# Altium footprint library Anemoia-ESP32.PcbLib: 32 footprints (part 2 of 2)
Each footprint in its own frame and in the unit in brackets; x right, y up, seen from the top. Pads: shape width x height; smd on the part's side, far side on the other; paste and mask are expansions set on the pad; w line width, h text height; cw(c..) or ccw(c..) is an arc to the next point about the centre after c.
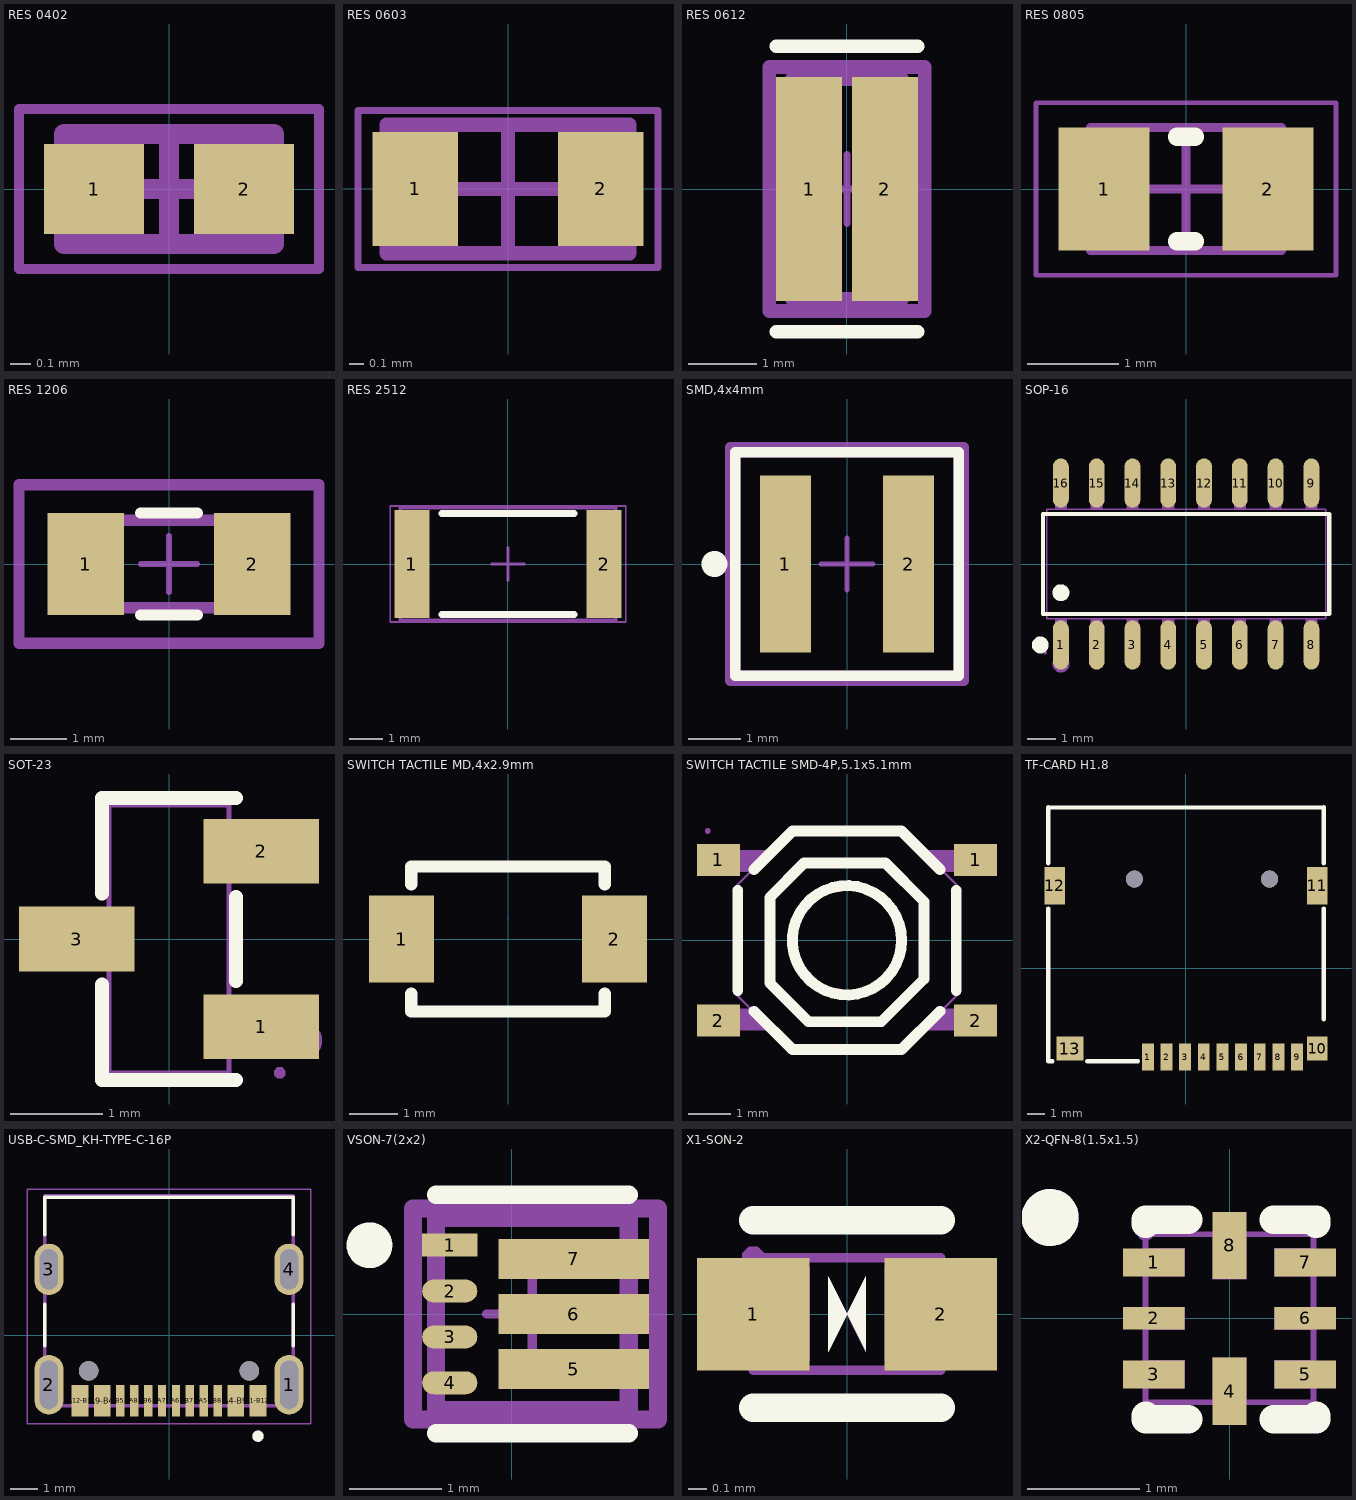
[diagram p1: the footprints below, top view; thin cyan lines are the x and y axes]

## RES 0402 [mm]
height 0.4
pads (2):
  rect 0.5x0.45 smd: 1(-0.375,0) 2(0.375,0)
Top 3D Body:
  lines w0.1: -0.525,-0.275 -0.525,0.275 0.525,0.275 0.525,-0.275 -0.525,-0.275
Mechanical 15:
  lines w0.05: -0.75,-0.4 -0.75,0.4 0.75,0.4 0.75,-0.4 -0.75,-0.4
  lines w0.1: -0.275,0 0.275,0 ; 0,-0.275 0,0.275
3D body: height 0.4, standoff 0, extent -0.275,-0.275 0.275,0.275
3D body: height 0.4, standoff 0, extent -0.525,-0.275 -0.275,0.275
3D body: height 0.4, standoff 0, extent 0.275,-0.275 0.525,0.275

## RES 0603 [mm] "Chip Resistor, 2-Leads, Body 1.60x0.80mm, IPC High Density"
height 0.55
pads (2):
  rect 0.6x0.8 smd: 1(-0.65,0) 2(0.65,0)
Top 3D Body:
  lines w0.1: -0.85,-0.45 -0.85,0.45 0.85,0.45 0.85,-0.45 -0.85,-0.45
Mechanical 15:
  lines w0.05: -1.05,-0.55 -1.05,0.55 1.05,0.55 1.05,-0.55 -1.05,-0.55
  lines w0.1: -0.45,0 0.45,0 ; 0,-0.45 0,0.45
3D body: height 0.55, standoff 0, extent -0.6,-0.45 0.6,0.45
3D body: height 0.55, standoff 0, extent -0.85,-0.45 -0.6,0.45
3D body: height 0.55, standoff 0, extent 0.6,-0.45 0.85,0.45

## RES 0612 [mm]
pads (2):
  rect 0.954x3.258 smd paste+0 mask+0: 1(-0.552,0) 2(0.552,0)
Top Overlay:
  lines w0.2: -1.029,-2.075 1.029,-2.075 ; -1.029,2.075 1.029,2.075
Top Courtyard:
  lines w0.2: -1.129,-1.775 -1.129,1.775 1.129,1.775 1.129,-1.775 -1.129,-1.775
Top Assembly:
  lines w0.2: -1.129,-1.775 -1.129,1.775 1.129,1.775 1.129,-1.775 -1.129,-1.775
Top 3D Body:
  lines w0.2: -0.8,-1.6 -0.8,1.6 0.8,1.6 0.8,-1.6 -0.8,-1.6
Top Component Center:
  lines w0.1: -0.5,0 0.5,0 ; 0,-0.5 0,0.5
3D body "Res_Rohm_LTR18EZPF12R0_eec.STEP": height 0.25, standoff 0, extent -1.129,-1.775 1.129,1.775

## RES 0805 [mm] "Chip Resistor, 2-Leads, Body 2.1x1.35mm, IPC Medium Density"
height 0.6
pads (2):
  rect 1x1.35 smd: 1(-0.9,0) 2(0.9,0)
Top Overlay:
  lines w0.2: -0.1,-0.575 0.1,-0.575 ; -0.1,0.575 0.1,0.575
Top 3D Body:
  lines w0.1: -1.05,-0.675 1.05,-0.675 1.05,0.675 -1.05,0.675 -1.05,-0.675
Mechanical 15:
  lines w0.05: -1.65,-0.95 1.65,-0.95 1.65,0.95 -1.65,0.95 -1.65,-0.95
  lines w0.1: -0.5,0 0.5,0 ; 0,-0.5 0,0.5
3D body "RESC2012X06N.step": height 0.6, standoff 0, extent -1.05,-0.675 1.05,0.675

## RES 1206 [mm]
pads (2):
  rect 1.356x1.808 smd paste+0 mask+0: 1(-1.476,0) 2(1.476,0)
Top Overlay:
  lines w0.2: -0.498,-0.904 0.498,-0.904 ; -0.498,0.904 0.498,0.904
Top Courtyard:
  lines w0.2: -2.654,-1.404 2.654,-1.404 2.654,1.404 -2.654,1.404 -2.654,-1.404
Top Assembly:
  lines w0.2: -2.654,-1.404 2.654,-1.404 2.654,1.404 -2.654,1.404 -2.654,-1.404
Top 3D Body:
  lines w0.2: -1.525,-0.775 1.525,-0.775 1.525,0.775 -1.525,0.775 -1.525,-0.775
Top Component Center:
  lines w0.1: -0.5,0 0.5,0 ; 0,-0.5 0,0.5
3D body "Res_Stackpole_Electronics_CSR1206FKR500_eec.STEP": height 0.25, standoff 0, extent -2.654,-1.404 2.654,1.404

## RES 2512 [mm]
pads (2):
  rect 1.05x3.25 smd: 1(-2.9,0) 2(2.9,0)
Top Overlay:
  lines w0.2: -2,-1.525 2,-1.525 ; -2,1.525 2,1.525
Top 3D Body:
  lines w0.1: -3.25,-1.7 -3.25,1.7 3.25,1.7 3.25,-1.7 -3.25,-1.7
Mechanical 15:
  lines w0.05: -3.55,-1.75 -3.55,1.75 3.55,1.75 3.55,-1.75 -3.55,-1.75
  lines w0.1: -0.5,0 0.5,0 ; 0,-0.5 0,0.5
3D body: height 0.75, standoff 0, extent 2.63,-1.7 3.25,1.7
3D body: height 0.75, standoff 0, extent -2.63,-1.7 2.63,1.7
3D body: height 0.75, standoff 0, extent -3.25,-1.7 -2.63,1.7

## SMD,4x4mm [mm]
pads (2):
  rect 0.98x3.4 smd paste+0 mask+0: 1(-1.185,0) 2(1.185,0)
Top Overlay:
  circle w0.25: c-2.55,0 r0.125
  lines w0.2: -2.15,-2.15 -2.15,2.15 2.15,2.15 2.15,-2.15 -2.15,-2.15
Top Courtyard:
  lines w0.2: -2.25,-2.25 -2.25,2.25 2.25,2.25 2.25,-2.25 -2.25,-2.25
Top Assembly:
  lines w0.2: -2.25,-2.25 -2.25,2.25 2.25,2.25 2.25,-2.25 -2.25,-2.25
Top 3D Body:
  lines w0.2: -2.15,-2.15 -2.15,2.15 2.15,2.15 2.15,-2.15 -2.15,-2.15
Top Component Center:
  lines w0.1: -0.5,0 0.5,0 ; 0,-0.5 0,0.5
3D body "Ind_Coilcraft_XFL4015-471MEB_eec.STEP": height 0.25, standoff 0, extent -2.25,-2.25 2.25,2.25

## SOP-16 [mm]
pads (16):
  oval 0.56x1.745 smd: 1(-4.445,-2.872) 2(-3.175,-2.872) 3(-1.905,-2.872) 4(-0.635,-2.872) 5(0.635,-2.872) 6(1.905,-2.872) 7(3.175,-2.872) 8(4.445,-2.872) 9(4.445,2.872) 10(3.175,2.872) 11(1.905,2.872) 12(0.635,2.872) 13(-0.635,2.872) 14(-1.905,2.872) 15(-3.175,2.872) 16(-4.445,2.872)
Top Overlay:
  circle w0.3: c-4.445,-1.019 r0.15
  circle w0.3: c-5.177,-2.872 r0.15
  lines w0.152: -5.076,-1.771 -5.076,1.771 5.076,1.771 5.076,-1.771 -5.076,-1.771
Mechanical 6:
  circle w0.3: c-4.445,-3.55 r0.15
Mechanical 15:
  drawing of 37 lines, arcs and shapes, not listed
3D body "TCMT4600T0.STEP": height 2.1, standoff -0.02, extent -5.51,-3.555 5.51,3.555

## SOT-23 [mm]
pads (3):
  rect 1.25x0.7 smd: 1(1,-0.95) 2(1,0.95) 3(-1,0)
Top Overlay:
  lines w0.152: -0.726,-0.495 -0.726,-1.526 0.726,-1.526 ; -0.726,0.495 -0.726,1.526 0.726,1.526 ; 0.726,-0.455 0.726,0.455
Mechanical 6:
  circle w0.2: c1.46,-1.1 r0.1
Mechanical 15:
  region: -1.2,-0.215 -1.2,0.215 -0.9,0.215 -0.9,-0.215
  region: -0.91,-0.215 -0.91,0.215 -0.64,0.215 -0.64,-0.215
  region: 0.9,-1.165 0.9,-0.735 1.2,-0.735 1.2,-1.165
  region: 0.64,-1.165 0.64,-0.735 0.91,-0.735 0.91,-1.165
  region: 0.9,0.735 0.9,1.165 1.2,1.165 1.2,0.735
  region: 0.64,0.735 0.64,1.165 0.91,1.165 0.91,0.735
  region: 1.26,-1.45 1.26,-1.475 1.225,-1.51 1.175,-1.51 1.14,-1.475 1.14,-1.45 1.14,-1.425 1.175,-1.39 1.225,-1.39 1.26,-1.425
  lines w0.051: -0.65,-1.45 0.65,-1.45 0.65,1.45 -0.65,1.45 -0.65,-1.45
3D body "DNBT8105-7--3DModel-STEP-56544.STEP": height 1.2, standoff 0, extent -1.2,-1.45 1.2,1.45

## SWITCH TACTILE MD,4x2.9mm [mm]
pads (2):
  rect 1.35x1.8 smd paste+0 mask+0.051: 1(-2.2,0) 2(2.2,0)
Top Overlay:
  lines w0.254: -2,-1.131 -2,-1.5 2,-1.5 2,-1.131 ; -2,1.131 -2,1.5 2,1.5 2,1.131
Mechanical 15:
  lines w0.003: 0,0.424 0,0.425
3D body "B3U1000PM.STEP": height 1.75, standoff 0, extent -2,-1.25 2,1.25

## SWITCH TACTILE SMD-4P,5.1x5.1mm [mm]
pads (4):
  rect 1x0.75 smd: 1(-3,1.875) 1(3,1.875) 2(-3,-1.875) 2(3,-1.875)
Top Overlay:
  circle w0.254: c0,0 r1.275
  lines w0.254: -2.55,-1.168 -2.55,1.168 ; -2.17,-1.655 -1.275,-2.55 1.275,-2.55 2.17,-1.655 ; -2.17,1.655 -1.275,2.55 1.275,2.55 2.17,1.655 ; 2.55,-1.168 2.55,1.168 ; -1.801,-0.998 -1.801,1.001 -1.001,1.801 0.899,1.801 1.801,0.899 1.801,-0.899 0.8,-1.9 -0.899,-1.9 -1.801,-0.998
Mechanical 15:
  region: -3.19,2.55 -3.19,2.525 -3.225,2.49 -3.275,2.49 -3.31,2.525 -3.31,2.55 -3.31,2.575 -3.275,2.61 -3.225,2.61 -3.19,2.575
  region: -3.25,1.599 -3.25,2.099 -2.85,2.099 -2.85,1.599
  region: -3.25,-2.1 -3.25,-1.6 -2.85,-1.6 -2.85,-2.1
  region: -2.2,-1.6 -1.7,-2.1 -2.86,-2.1 -2.86,-1.6
  region: -2.2,1.599 -1.7,2.099 -2.86,2.1 -2.86,1.6
  region: 2.2,1.6 1.7,2.1 2.86,2.1 2.86,1.6
  region: 2.201,-1.601 1.701,-2.101 2.861,-2.101 2.861,-1.601
  region: 2.85,-2.1 2.85,-1.6 3.25,-1.6 3.25,-2.1
  region: 2.85,1.6 2.85,2.1 3.25,2.1 3.25,1.6
  lines w0.051: -2.55,-1.3 -2.55,1.3 -1.3,2.55 1.3,2.55 2.55,1.3 2.55,-1.3 1.3,-2.55 -1.3,-2.55 -2.55,-1.3
3D body "TL3342F160QG_TR--3DModel-STEP-1.STEP": height 1.5, standoff 0, extent -3.3,-2.5 3.3,2.5

## TF-CARD H1.8 [mm]
pads (15):
  rect 0.7x1.6 smd paste+0 mask+0.05: 1(-2.25,-5.25) 2(-1.15,-5.25) 3(-0.05,-5.25) 4(1.05,-5.25) 5(2.15,-5.25) 6(3.25,-5.25) 7(4.35,-5.25) 8(5.45,-5.25) 9(6.55,-5.25)
  rect 1.2x1.4 smd paste+0 mask+0.05: 10(7.747,-4.75)
  rect 1.2x2.2 smd paste+0 mask+0.05: 11(7.75,4.85) 12(-7.75,4.85)
  rect 1.6x1.4 smd paste+0 mask+0.05: 13(-6.85,-4.75)
  round 1 hole 1 unplated paste+0: ""(-3.05,5.25) ""(4.93,5.25)
Top Overlay:
  lines w0.25: -8.128,9.482 8.128,9.482
  lines w0.254: -8.128,3.519 -8.128,-5.504 -7.875,-5.504 ; -8.128,6.181 -8.128,9.482 ; -5.825,-5.504 -2.831,-5.504 ; 8.128,-3.019 8.128,3.519 ; 8.128,6.181 8.128,9.482
Mechanical 15:
  circle w0.4: c-3.05,5.25 r0.2
  circle w0.4: c4.93,5.25 r0.2
3D body "MSD-1-A--3DModel-STEP-1.STEP": height 1.9, standoff -0.5, extent -8.075,-5.8 8.075,9.25

## USB-C-SMD_KH-TYPE-C-16P [mm]
pads (18):
  oval 1.05x2.15 hole 0.65 slot 1.75 at 90 deg: 1(4.32,-1.787) 2(-4.32,-1.787)
  oval 1.05x1.85 hole 0.65 slot 1.45 at 90 deg: 3(-4.32,2.362) 4(4.32,2.362)
  rect 0.6x1.15 smd: A1-B12(3.2,-2.362) A4-B9(2.4,-2.362) A9-B4(-2.4,-2.362) A12-B1(-3.2,-2.362)
  rect 0.3x1.15 smd: A5(1.25,-2.362) A6(0.25,-2.362) A7(-0.25,-2.362) A8(-1.25,-2.362) B5(-1.75,-2.362) B6(-0.75,-2.362) B7(0.75,-2.362) B8(1.75,-2.362)
  round 0.7 hole 0.7 unplated: ""(-2.89,-1.288) ""(2.89,-1.288)
Top Overlay:
  circle w0.2: c3.2,-3.638 r0.1
  lines w0.127: -4.47,-0.387 -4.47,1.112 ; -4.47,3.612 -4.47,4.962 4.47,4.962 4.47,3.612 ; 4.47,-0.387 4.47,1.112
Top 3D Body:
  circle w0.2: c3.2,-3.638 r0.1
  lines w0.127: -4.47,4.962 -4.47,-2.548 4.47,-2.548 4.47,4.962 ; -4.47,4.962 -4.47,5.002 4.47,5.002 4.47,4.962 ; -4.47,4.962 4.47,4.962
Mechanical 15:
  lines w0.05: -5.095,-3.187 -5.095,5.252 5.095,5.252 5.095,-3.187 -5.095,-3.187
3D body "step_temp.STEP": height 3.41, standoff -1.1, extent -4.47,-2.813 4.47,4.998

## VSON-7(2x2) [mm]
pads (7):
  rect 0.6x0.25 smd paste-1000 mask-1000: 1(-0.675,0.75)
  rrect100% 0.6x0.25 smd paste-1000 mask-1000: 2(-0.675,0.25) 3(-0.675,-0.25) 4(-0.675,-0.75)
  rect 1.64x0.44 smd paste-1000 mask-1000: 5(0.675,-0.6) 6(0.675,0) 7(0.675,0.6)
Top Overlay:
  circle w0.25: c-1.55,0.75 r0.125
  lines w0.2: -0.825,-1.3 1.275,-1.3 ; -0.825,1.3 1.275,1.3
Top Paste:
  rectangle: 0.775,-0.75 1.425,-0.45
  rectangle: 0.775,-0.15 1.425,0.15
  rectangle: 0.775,0.45 1.425,0.75
  rectangle: -0.075,-0.75 0.575,-0.45
  rectangle: -0.075,-0.15 0.575,0.15
  rectangle: -0.075,0.45 0.575,0.75
  rectangle: -0.975,0.645 -0.375,0.855
  region: -0.375,0.23 -0.375,0.27 -0.375,0.245 -0.394,0.199 -0.429,0.164 -0.475,0.145 -0.5,0.145 -0.85,0.145 -0.875,0.145 -0.921,0.164 -0.956,0.199 -0.975,0.245 -0.975,0.27 -0.975,0.23 -0.975,0.255 -0.956,0.301 -0.921,0.336 -0.875,0.355 -0.85,0.355 -0.5,0.355 -0.475,0.355 -0.429,0.336 -0.394,0.301 -0.375,0.255
  region: -0.85,-0.355 -0.875,-0.355 -0.921,-0.336 -0.956,-0.301 -0.975,-0.255 -0.975,-0.23 -0.975,-0.27 -0.975,-0.245 -0.956,-0.199 -0.921,-0.164 -0.875,-0.145 -0.85,-0.145 -0.5,-0.145 -0.475,-0.145 -0.429,-0.164 -0.394,-0.199 -0.375,-0.245 -0.375,-0.27 -0.375,-0.23 -0.375,-0.255 -0.394,-0.301 -0.429,-0.336 -0.475,-0.355 -0.5,-0.355
  region: -0.975,-0.77 -0.975,-0.745 -0.956,-0.699 -0.921,-0.664 -0.875,-0.645 -0.85,-0.645 -0.5,-0.645 -0.475,-0.645 -0.429,-0.664 -0.394,-0.699 -0.375,-0.745 -0.375,-0.77 -0.375,-0.73 -0.375,-0.755 -0.394,-0.801 -0.429,-0.836 -0.475,-0.855 -0.5,-0.855 -0.85,-0.855 -0.875,-0.855 -0.921,-0.836 -0.956,-0.801 -0.975,-0.755 -0.975,-0.73
Top Solder:
  rectangle: -0.075,-0.75 1.425,-0.45
  rectangle: -0.075,-0.15 1.425,0.15
  rectangle: -0.075,0.45 1.425,0.75
  rectangle: -1.045,0.555 -0.305,0.945
  region: -0.5,0.055 -0.85,0.055 -0.889,0.055 -0.96,0.085 -1.015,0.14 -1.045,0.211 -1.045,0.25 -1.045,0.289 -1.015,0.36 -0.96,0.415 -0.889,0.445 -0.85,0.445 -0.5,0.445 -0.461,0.445 -0.39,0.415 -0.335,0.36 -0.305,0.289 -0.305,0.25 -0.305,0.211 -0.335,0.14 -0.39,0.085 -0.461,0.055
  region: -0.305,-0.25 -0.305,-0.289 -0.335,-0.36 -0.39,-0.415 -0.461,-0.445 -0.5,-0.445 -0.85,-0.445 -0.889,-0.445 -0.96,-0.415 -1.015,-0.36 -1.045,-0.289 -1.045,-0.25 -1.045,-0.211 -1.015,-0.14 -0.96,-0.085 -0.889,-0.055 -0.85,-0.055 -0.5,-0.055 -0.461,-0.055 -0.39,-0.085 -0.335,-0.14 -0.305,-0.211
  region: -0.85,-0.555 -0.5,-0.555 -0.461,-0.555 -0.39,-0.585 -0.335,-0.64 -0.305,-0.711 -0.305,-0.75 -0.305,-0.789 -0.335,-0.86 -0.39,-0.915 -0.461,-0.945 -0.5,-0.945 -0.85,-0.945 -0.889,-0.945 -0.96,-0.915 -1.015,-0.86 -1.045,-0.789 -1.045,-0.75 -1.045,-0.711 -1.015,-0.64 -0.96,-0.585 -0.889,-0.555
Top Courtyard:
  lines w0.2: -1.075,-1.15 1.595,-1.15 1.595,1.15 -1.075,1.15 -1.075,-1.15
Top Assembly:
  lines w0.2: -1.075,-1.15 1.595,-1.15 1.595,1.15 -1.075,1.15 -1.075,-1.15
Top 3D Body:
  lines w0.2: -0.825,-1.05 1.275,-1.05 1.275,1.05 -0.825,1.05 -0.825,-1.05
Top Component Center:
  lines w0.1: -0.275,0 0.725,0 ; 0.225,-0.5 0.225,0.5
3D body "IC_Texas_Instruments_TPS62086RLTR_eec.STEP": height 0.25, standoff 0, extent -1.075,-1.15 1.595,1.15

## X1-SON-2 [mm]
pads (2):
  rect 0.6x0.6 smd: 1(-0.5,0) 2(0.5,0)
Top Overlay:
  region: -0.1,0.2 -0.1,-0.2 0,0
  region: 0.101,-0.198 0.101,0.202 0.001,0.002
  lines w0.15: -0.5,-0.5 0.5,-0.5 ; -0.5,0.5 0.5,0.5
Mechanical 6:
  region: -0.1,0.2 -0.1,-0.2 0,0
  region: 0.1,-0.2 0.1,0.2 0,0
Mechanical 15:
  region: -0.44,0.3 -0.44,0.275 -0.475,0.24 -0.525,0.24 -0.56,0.275 -0.56,0.3 -0.56,0.325 -0.525,0.36 -0.475,0.36 -0.44,0.325
  region: -0.45,-0.25 -0.45,0.25 -0.2,0.25 -0.2,-0.25
  region: 0.2,-0.25 0.2,0.25 0.45,0.25 0.45,-0.25
  lines w0.051: -0.5,-0.3 0.5,-0.3 0.5,0.3 -0.5,0.3 -0.5,-0.3
3D body "TPD1E01B04DPYR.STEP": height 0.45, standoff 0, extent -0.5,-0.3 0.5,0.3

## X2-QFN-8(1.5x1.5) [mm]
pads (8):
  rect 0.55x0.25 smd paste+0 mask+0.05: 1(-0.675,0.5) 3(-0.675,-0.5) 5(0.675,-0.5) 7(0.675,0.5)
  rect 0.55x0.2 smd paste+0 mask+0.05: 2(-0.675,0) 6(0.675,0)
  rect 0.3x0.6 smd paste+0 mask+0.05: 4(0,-0.65) 8(0,0.65)
Top Overlay:
  circle w0.254: c-1.6,0.9 r0.127
  lines w0.254: -0.749,-0.868 -0.749,-0.901 -0.368,-0.901 ; -0.749,0.845 -0.749,0.877 -0.368,0.877 ; 0.394,-0.901 0.775,-0.901 0.775,-0.868 ; 0.394,0.877 0.775,0.877 0.775,0.845
Mechanical 6:
  circle w0.254: c-1.6,0.9 r0.127
Mechanical 15:
  region: -0.15,0.35 -0.15,0.75 0.15,0.75 0.15,0.35
  region: -0.15,-0.75 -0.15,-0.35 0.15,-0.35 0.15,-0.75
  region: -0.4,-0.1 -0.75,-0.1 -0.75,0.1 -0.4,0.1
  region: 0.75,-0.1 0.4,-0.1 0.4,0.1 0.75,0.1
  region: -0.4,0.375 -0.75,0.375 -0.75,0.625 -0.4,0.625
  region: -0.4,-0.625 -0.75,-0.625 -0.75,-0.375 -0.4,-0.375
  region: 0.75,-0.625 0.4,-0.625 0.4,-0.375 0.75,-0.375
  region: 0.75,0.375 0.4,0.375 0.4,0.625 0.75,0.625
  region: -0.69,0.75 -0.69,0.725 -0.725,0.69 -0.775,0.69 -0.81,0.725 -0.81,0.75 -0.81,0.775 -0.775,0.81 -0.725,0.81 -0.69,0.775
  lines w0.051: -0.75,-0.75 0.75,-0.75 0.75,0.75 -0.75,0.75 -0.75,-0.75
3D body "BQ298012RUGR.STEP": height 0.4, standoff 0, extent -0.75,-0.75 0.75,0.75